# Altium schematic symbol library Schlib1.SchLib: 1 symbol
Pins are listed as number, name and electrical type; pins without a type are passive.

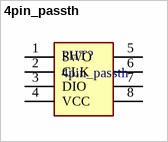
[diagram p0: symbol 4pin_passth]

## 4pin_passth
designator PHT?
footprint PASSTH
pins: 1 SWO, 2 CLK, 3 DIO, 4 VCC, 5 SWO, 6 CLK, 7 DIO, 8 VCC